# EAGLE library part HC-06 (library bluetooth)
Bluetooth module - slave serial
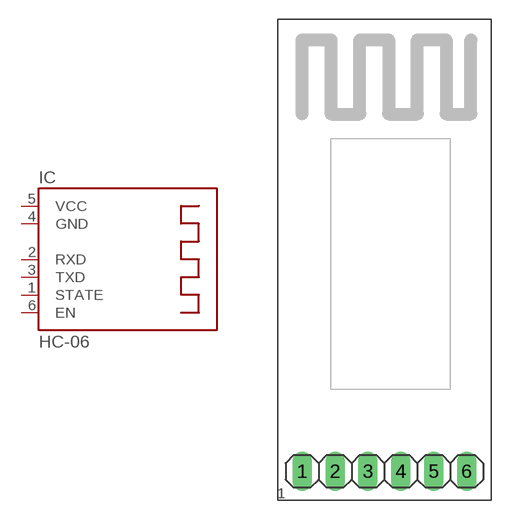
[diagram p1: symbol with the pads of HC-06; footprint HC-06]

Designator prefix IC

## HC-06  [HC-06]
1  STATE  out
2  RXD  in
3  TXD  out
4  GND  pwr
5  VCC  pwr
6  EN  in

## Footprint HC-06 (pad centres in mm)
drill 1.016 long: 1 -6.35,0; 2 -3.81,0; 3 -1.27,0; 4 1.27,0; 5 3.81,0; 6 6.35,0